# Altium schematic symbol library Schlib1.SchLib: 1 symbol
Pins are listed as number, name and electrical type; pins without a type are passive.

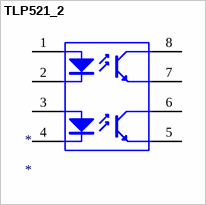
[diagram p0: symbol TLP521_2]

## TLP521_2
designator *
pins: 1 A, 2 K, 3 A, 4 K, 5 E, 6 C, 7 E, 8 C